# Altium footprint library CC2530CC2531CC2540CC2541pcb封装.PcbLib: 61 footprints (part 2 of 4)
Each footprint in its own frame and in the unit in brackets; x right, y up, seen from the top. Pads: shape width x height; smd on the part's side, far side on the other; paste and mask are expansions set on the pad; w line width, h text height; cw(c..) or ccw(c..) is an arc to the next point about the centre after c.
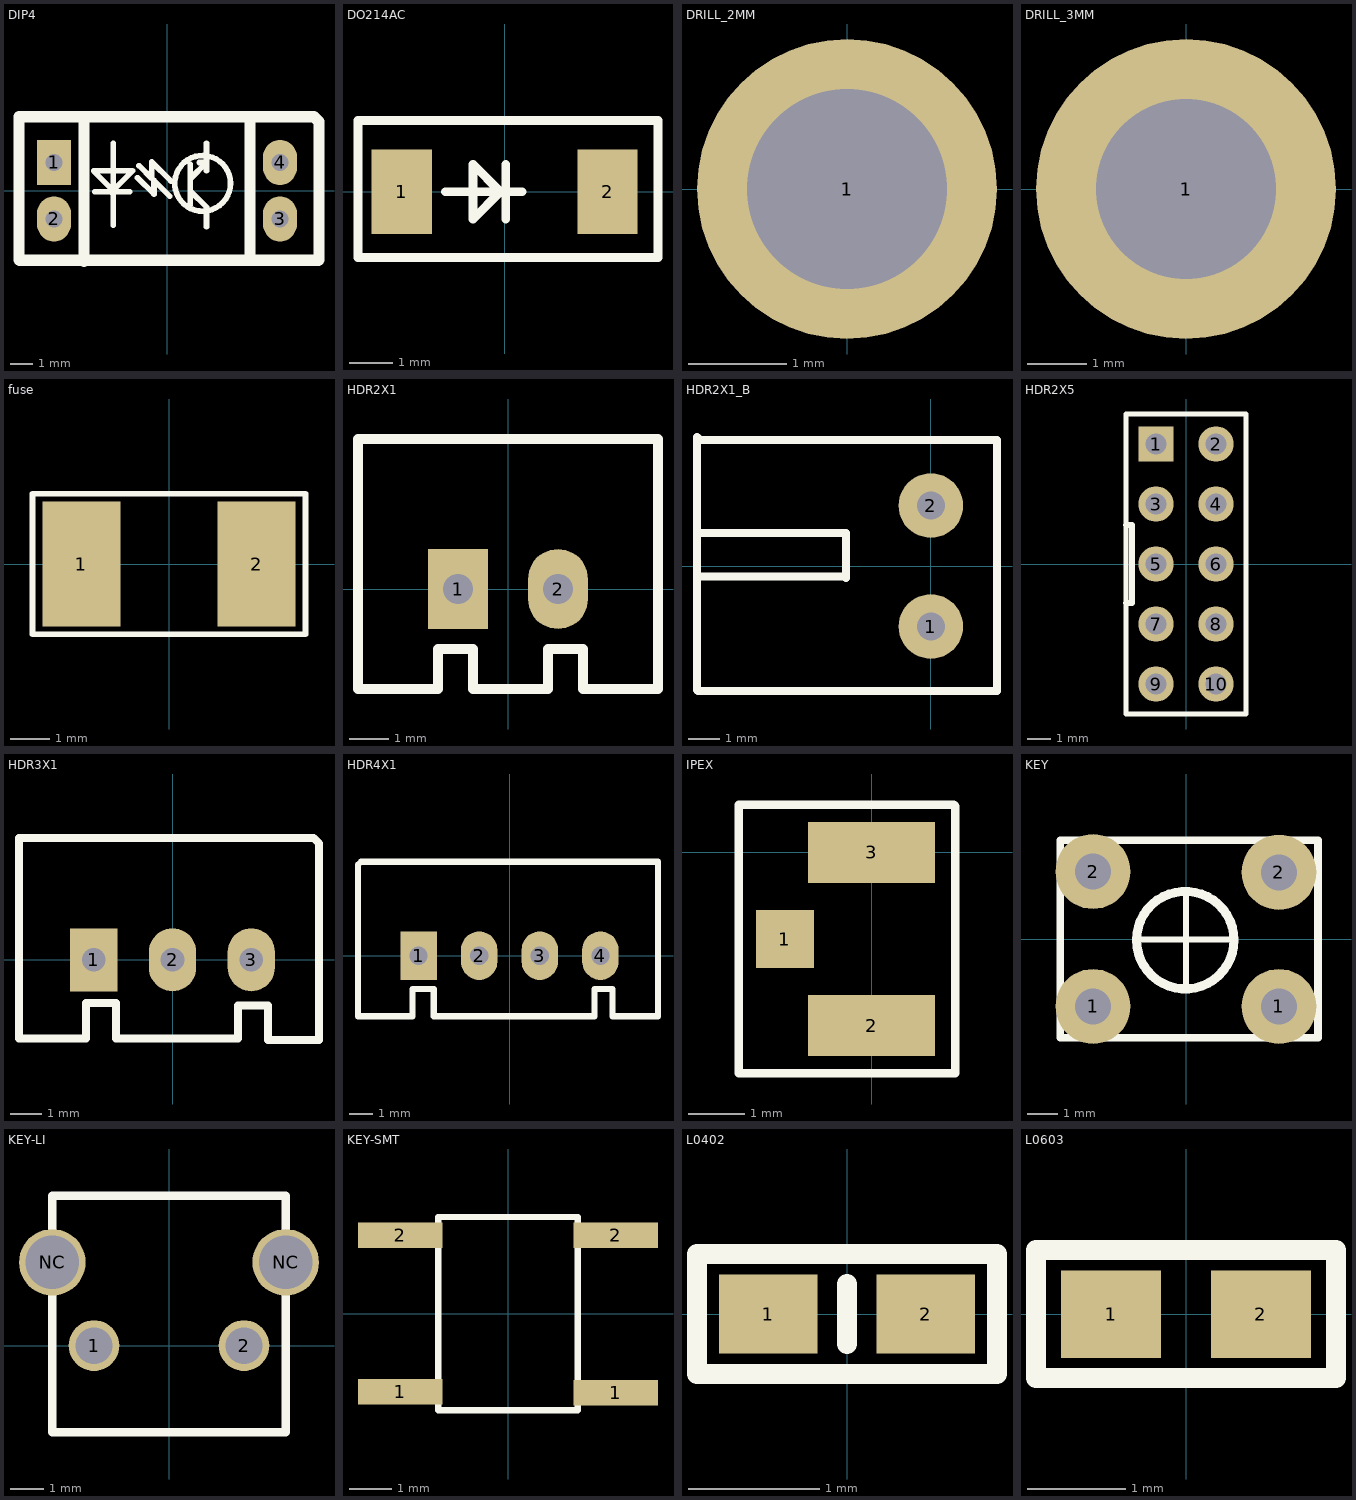
[diagram p1: the footprints below, top view; thin cyan lines are the x and y axes]

## DIP4 [mil]
pads (4):
  rect 60x80 hole 30: 1(-200,50)
  oval 60x80 hole 30: 2(-200,-50) 3(200,-50) 4(200,50)
Top Overlay:
  circle w10: c63,13 r49.34
  lines w10: -128,-2 -66,-2 ; -95,-61 -95,84 ; -53,23 -52,23 -23,-6 -23,18 5,-10 ; -50,44 -49,44 -27,22 -27,51 7,17 ; 41,-25 41,47 ; 41,-2 43,-2 70,-29 70,-64 ; 41,22 42,22 70,50 ; 57,50 70,50 ; 70,35 70,50 ; 70,84 70,50 ; -130,35 -99,4 -99,-3 -61,35 -130,35
  lines w20: -147,-125 -147,129 ; 147,131 147,-121 149,-123 ; -262,-122 -261,-123 268,-123 269,-122 269,122 260,131 -262,131 -262,-122

## DO214AC [mil]
pads (2):
  rect 55x77 smd: 1(-94,0) 2(94,0)
Top Overlay:
  lines w8: -54,0 16,0 ; 1,-25 1,25 ; -134,-60 -134,65 140,65 140,-60 -134,-60 ; -29,-25 -29,25 -4,0 -29,-25

## DRILL_2MM [mil]
pads (1):
  round 120 hole 80: 1(0,0)

## DRILL_3MM [mil]
pads (1):
  round 200 hole 120: 1(0,0)

## fuse [mm]
pads (2):
  rect 2x3.2 smd: 1(-2.25,0) 2(2.25,0)
Top Overlay:
  lines w0.152: -3.5,-1.803 3.5,-1.803 3.5,1.803 -3.5,1.803 -3.5,-1.803

## HDR2X1 [mil]
pads (2):
  rect 60x80 hole 30: 1(-50,0)
  oval 60x80 hole 30: 2(50,0)
Top Overlay:
  lines w10: -150,-100 -70,-100 -70,-60 -35,-60 -35,-100 40,-100 40,-60 75,-60 75,-100 150,-100 150,-45 150,135 150,150 -150,150 -150,0 -150,-100

## HDR2X1_B [mil]
pads (2):
  round 80 hole 35: 1(0,-75) 2(0,75)
Top Overlay:
  lines w10: -290,-13 -107,-13 -105,-15 -105,41 -290,41 ; -290,-154 -289,-155 82,-155 82,156 -286,156 -290,160 -290,-154

## HDR2X5 [mm]
pads (10):
  rect 1.5x1.5 hole 0.9: 1(-1.27,5.08)
  round 1.5 hole 0.9: 2(1.27,5.08) 3(-1.27,2.54) 4(1.27,2.54) 5(-1.27,0) 6(1.27,0) 7(-1.27,-2.54) 8(1.27,-2.54) 9(-1.27,-5.08) 10(1.27,-5.08)
Top Overlay:
  lines w0.2: -2.54,-6.35 2.54,-6.35 2.54,6.35 -2.54,6.35 -2.54,-6.35
  lines w0.254: -2.54,-1.651 -2.286,-1.651 -2.286,1.651 -2.54,1.651

## HDR3X1 [mil]
pads (3):
  rect 60x80 hole 30: 1(-100,0)
  oval 60x80 hole 30: 2(0,0) 3(100,0)
Top Overlay:
  lines w10: -195,-100 -195,5 -195,155 179,155 186,148 186,-102 121,-102 121,-58 83,-58 83,-100 74,-100 -72,-100 -72,-55 -110,-55 -110,-100 -195,-100

## HDR4X1 [mil]
pads (4):
  rect 60x80 hole 30: 1(-150,0)
  oval 60x80 hole 30: 2(-50,0) 3(50,0) 4(150,0)
Top Overlay:
  lines w10: -250,-100 -160,-100 -160,-55 -125,-55 -125,-100 140,-100 140,-55 170,-55 170,-100 245,-100 245,155 -245,155 -250,150 -250,0 -250,-100

## IPEX [mil]
pads (3):
  rect 40x40 smd: 1(-60,-60)
  rect 88x42 smd: 2(0,-120) 3(0,0)
Top Overlay:
  lines w6: -92,-153 58,-153 58,32 57,33 -92,33 -92,-153

## KEY [mm]
pads (4):
  round 2.5 hole 1.2: 1(-3.1,-2.248) 1(3.1,-2.248) 2(-3.1,2.248) 2(3.1,2.222)
Top Overlay:
  circle w0.305: c-0.024,-0.037 r1.626
  lines w0.203: -1.698,-0.012 1.604,-0.012 ; 0.002,-1.537 0.002,1.46
  lines w0.254: -4.198,-3.296 -4.198,3.296 4.4,3.296 4.4,-3.296 -4.198,-3.296
Bottom Overlay:
  circle w0.305: c-0.024,-0.037 r1.626
  lines w0.203: 0.002,-1.51 0.002,1.487 ; -1.649,-0.012 1.653,-0.012 0.002,-0.012 -1.649,-0.012
  lines w0.254: -5,-4 -5,4 5,4 5,-4 -5,-4

## KEY-LI [mm]
pads (4):
  round 1.524 hole 1.1: 1(-2.25,0) 2(2.25,0)
  round 2 hole 1.6: NC(-3.5,2.5) NC(3.5,2.5)
Top Overlay:
  lines w0.254: -3.5,-2.601 3.5,-2.601 3.5,4.5 -3.5,4.5 ; -3.5,-2.565 -3.5,4.5 ; -3.429,4.5 -3.5,4.5

## KEY-SMT [mm]
height 4.32
pads (4):
  rect 2x0.6 smd: 1(-2.55,-1.85) 1(2.55,-1.87) 2(-2.55,1.85) 2(2.55,1.85)
Top Overlay:
  lines w0.152: -1.651,-2.286 -1.651,2.286 1.651,2.286 1.651,-2.286 -1.651,-2.286

## L0402 [mm]
pads (2):
  rect 0.75x0.6 smd: 1(-0.6,0) 2(0.6,0)
Top Overlay:
  lines w0.152: 0,-0.23 0,0.23 ; -1.143,-0.457 -1.143,0.457 1.143,0.457 1.143,-0.457 -1.143,-0.457

## L0603 [mil]
pads (2):
  rect 40x35 smd: 1(-29.92,0) 2(29.92,0)
Top Overlay:
  lines w7.87: -60,-25.59 60,-25.59 60,25.59 -60,25.59 -60,-25.59